# Altium footprint library WR-TBL_Rising Cage Clamp_5.00mm.PcbLib: 76 footprints (part 3 of 5)
Each footprint in its own frame and in the unit in brackets; x right, y up, seen from the top. Pads: shape width x height; smd on the part's side, far side on the other; paste and mask are expansions set on the pad; w line width, h text height; cw(c..) or ccw(c..) is an arc to the next point about the centre after c.
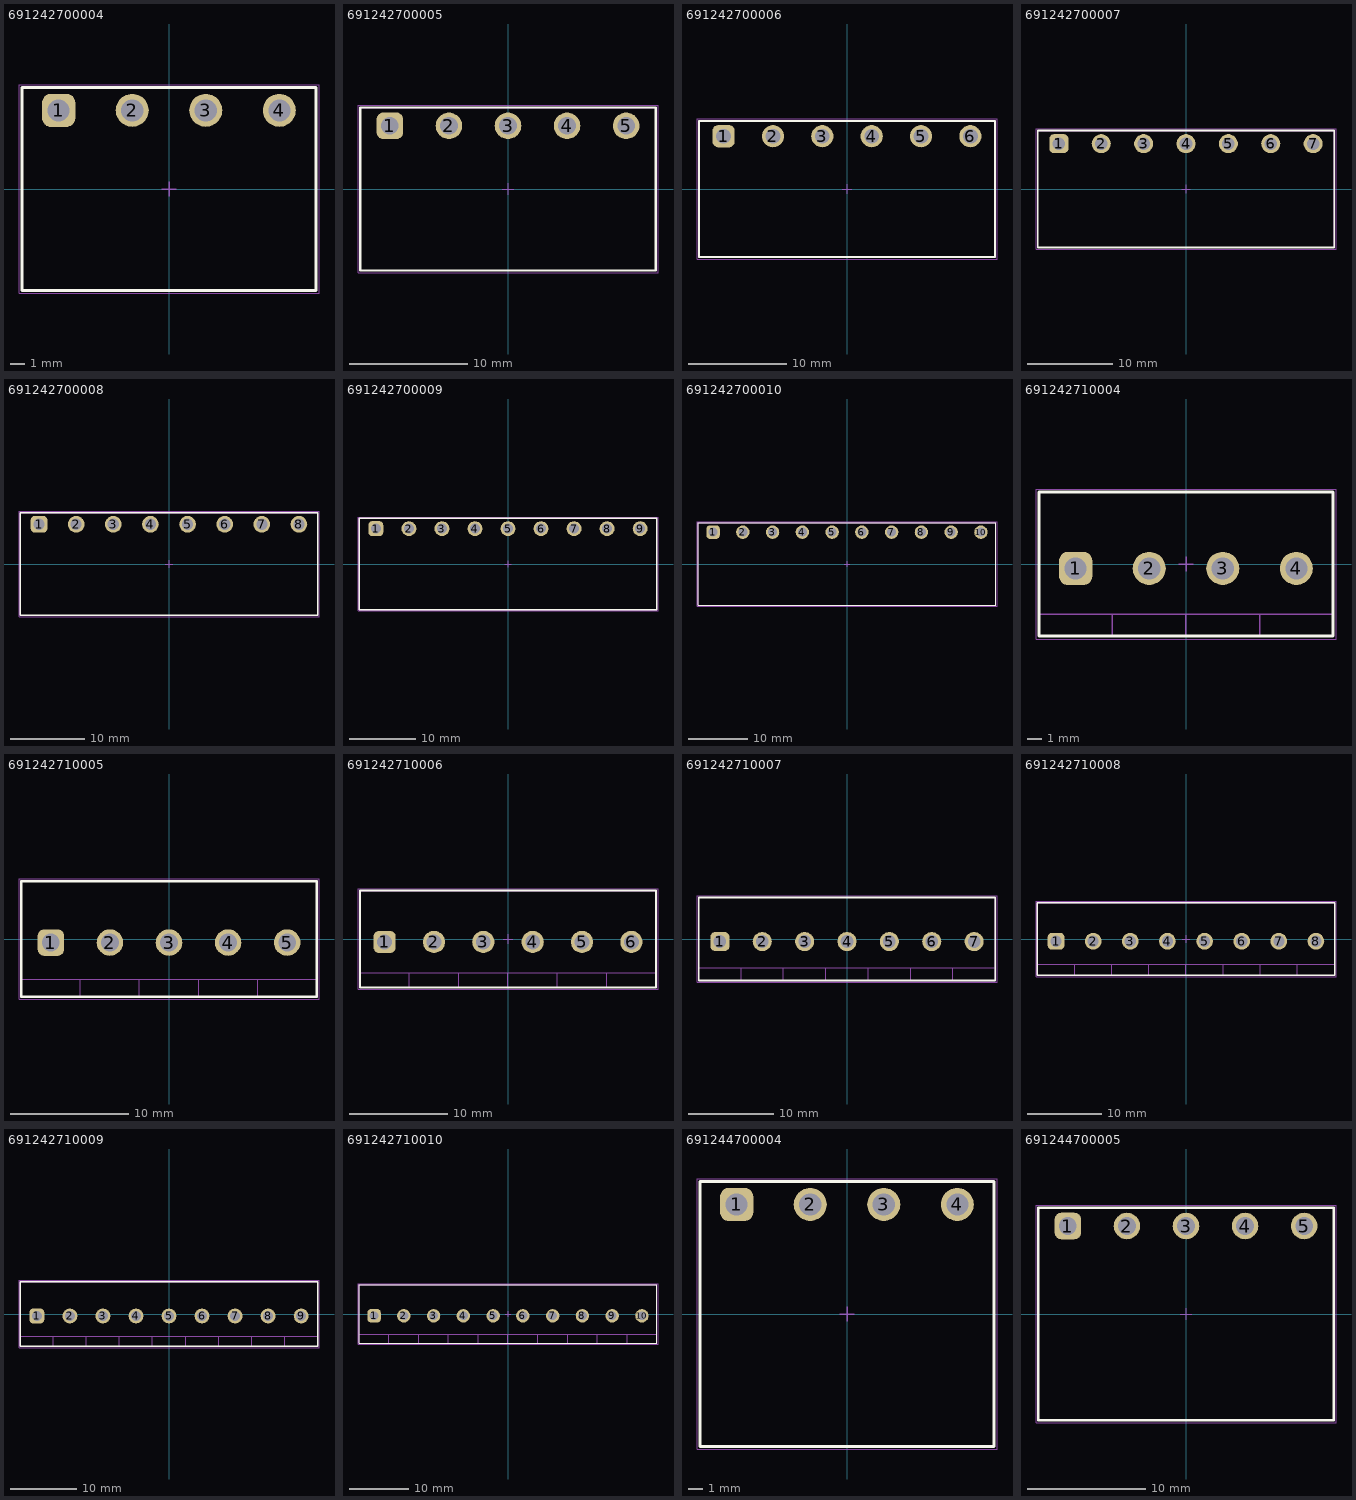
[diagram p2: the footprints below, top view; thin cyan lines are the x and y axes]

## 691242700004 [mm] "Serie 2427-5.00mm Vertical Cable Entry with Rising Cage Clamp, 4 pins"
height 9
pads (4):
  rrect50% 2.25x2.25 hole 1.5: 1(-7.5,5.35)
  round 2.25 hole 1.5: 2(-2.5,5.35) 3(2.5,5.35) 4(7.5,5.35)
Top Overlay:
  lines w0.2: -10,-6.9 10,-6.9 10,6.9 -10,6.9 -10,-6.9
Top Assembly:
  lines w0.1: -10,-6.9 -10,6.9 10,6.9 10,-6.9 -10,-6.9
Top Designator:
  text ".Designator" at -3.647,-0.357 h1
Top 3D Body:
  lines w0.1: -10,-6.9 10,-6.9 10,6.9 -10,6.9 -10,-6.9
Top Courtyard:
  lines w0.05: -10.2,-7.1 -10.2,7.1 10.2,7.1 10.2,-7.1 -10.2,-7.1
Top Component Center:
  lines w0.1: -0.5,0 0.5,0 ; 0,-0.5 0,0.5
3D body "691242700004.stp": height 9.85, standoff -3.45, extent -10,-6.9 10,6.9

## 691242700005 [mm] "Serie 2427-5.00mm Vertical Cable Entry with Rising Cage Clamp, 5 pins"
height 9
pads (5):
  rrect50% 2.25x2.25 hole 1.5: 1(-10,5.35)
  round 2.25 hole 1.5: 2(-5,5.35) 3(0,5.35) 4(5,5.35) 5(10,5.35)
Top Overlay:
  lines w0.2: -12.5,-6.9 12.5,-6.9 12.5,6.9 -12.5,6.9 -12.5,-6.9
Top Assembly:
  lines w0.1: -12.5,-6.9 -12.5,6.9 12.5,6.9 12.5,-6.9 -12.5,-6.9
Top Designator:
  text ".Designator" at -3.647,-0.357 h1
Top 3D Body:
  lines w0.1: -12.5,-6.9 12.5,-6.9 12.5,6.9 -12.5,6.9 -12.5,-6.9
Top Courtyard:
  lines w0.05: -12.7,-7.1 -12.7,7.1 12.7,7.1 12.7,-7.1 -12.7,-7.1
Top Component Center:
  lines w0.1: -0.5,0 0.5,0 ; 0,-0.5 0,0.5
3D body "691242700005.stp": height 9.85, standoff -3.45, extent -12.5,-6.9 12.5,6.9

## 691242700006 [mm] "Serie 2427-5.00mm Vertical Cable Entry with Rising Cage Clamp, 6 pins"
height 9
pads (6):
  rrect50% 2.25x2.25 hole 1.5: 1(-12.5,5.35)
  round 2.25 hole 1.5: 2(-7.5,5.35) 3(-2.5,5.35) 4(2.5,5.35) 5(7.5,5.35) 6(12.5,5.35)
Top Overlay:
  lines w0.2: -15,-6.9 -15,6.9 15,6.9 15,-6.9 -15,-6.9
Top Assembly:
  lines w0.1: -15,-6.9 15,-6.9 15,6.9 -15,6.9 -15,-6.9
Top Designator:
  text ".Designator" at -3.647,-0.357 h1
Top 3D Body:
  lines w0.1: -15,-6.9 -15,6.9 15,6.9 15,-6.9 -15,-6.9
Top Courtyard:
  lines w0.05: -15.2,-7.1 15.2,-7.1 15.2,7.1 -15.2,7.1 -15.2,-7.1
Top Component Center:
  lines w0.1: -0.5,0 0.5,0 ; 0,-0.5 0,0.5
3D body "691242700006.stp": height 9.85, standoff -3.45, extent -15,-6.9 15,6.9

## 691242700007 [mm] "Serie 2427-5.00mm Vertical Cable Entry with Rising Cage Clamp, 7 pins"
height 9
pads (7):
  rrect50% 2.25x2.25 hole 1.5: 1(-15,5.35)
  round 2.25 hole 1.5: 2(-10,5.35) 3(-5,5.35) 4(0,5.35) 5(5,5.35) 6(10,5.35) 7(15,5.35)
Top Overlay:
  lines w0.2: -17.5,-6.9 -17.5,6.9 17.5,6.9 17.5,-6.9 -17.5,-6.9
Top Assembly:
  lines w0.1: -17.5,-6.9 17.5,-6.9 17.5,6.9 -17.5,6.9 -17.5,-6.9
Top Designator:
  text ".Designator" at -3.647,-0.357 h1
Top 3D Body:
  lines w0.1: -17.5,-6.9 -17.5,6.9 17.5,6.9 17.5,-6.9 -17.5,-6.9
Top Courtyard:
  lines w0.05: -17.7,-7.1 17.7,-7.1 17.7,7.1 -17.7,7.1 -17.7,-7.1
Top Component Center:
  lines w0.1: -0.5,0 0.5,0 ; 0,-0.5 0,0.5
3D body "691242700007.stp": height 9.85, standoff -3.45, extent -17.5,-6.9 17.5,6.9

## 691242700008 [mm] "Serie 2427-5.00mm Vertical Cable Entry with Rising Cage Clamp, 8 pins"
height 9
pads (8):
  rrect50% 2.25x2.25 hole 1.5: 1(-17.5,5.35)
  round 2.25 hole 1.5: 2(-12.5,5.35) 3(-7.5,5.35) 4(-2.5,5.35) 5(2.5,5.35) 6(7.5,5.35) 7(12.5,5.35) 8(17.5,5.35)
Top Overlay:
  lines w0.2: -20,-6.9 20,-6.9 20,6.9 -20,6.9 -20,-6.9
Top Assembly:
  lines w0.1: -20,-6.9 -20,6.9 20,6.9 20,-6.9 -20,-6.9
Top Designator:
  text ".Designator" at -3.647,-0.357 h1
Top 3D Body:
  lines w0.1: -20,-6.9 20,-6.9 20,6.9 -20,6.9 -20,-6.9
Top Courtyard:
  lines w0.05: -20.2,-7.1 -20.2,7.1 20.2,7.1 20.2,-7.1 -20.2,-7.1
Top Component Center:
  lines w0.1: -0.5,0 0.5,0 ; 0,-0.5 0,0.5
3D body "691242700008.stp": height 9.85, standoff -3.45, extent -20,-6.9 20,6.9

## 691242700009 [mm] "Serie 2427-5.00mm Vertical Cable Entry with Rising Cage Clamp, 9 pins"
height 9
pads (9):
  rrect50% 2.25x2.25 hole 1.5: 1(-20,5.35)
  round 2.25 hole 1.5: 2(-15,5.35) 3(-10,5.35) 4(-5,5.35) 5(0,5.35) 6(5,5.35) 7(10,5.35) 8(15,5.35) 9(20,5.35)
Top Overlay:
  lines w0.2: -22.5,-6.9 22.5,-6.9 22.5,6.9 -22.5,6.9 -22.5,-6.9
Top Assembly:
  lines w0.1: -22.5,-6.9 -22.5,6.9 22.5,6.9 22.5,-6.9 -22.5,-6.9
Top Designator:
  text ".Designator" at -3.647,-0.357 h1
Top 3D Body:
  lines w0.1: -22.5,-6.9 22.5,-6.9 22.5,6.9 -22.5,6.9 -22.5,-6.9
Top Courtyard:
  lines w0.05: -22.7,-7.1 -22.7,7.1 22.7,7.1 22.7,-7.1 -22.7,-7.1
Top Component Center:
  lines w0.1: -0.5,0 0.5,0 ; 0,-0.5 0,0.5
3D body "691242700009.stp": height 9.85, standoff -3.45, extent -22.5,-6.9 22.5,6.9

## 691242700010 [mm] "Serie 2427-5.00mm Vertical Cable Entry with Rising Cage Clamp, 10 pins"
height 9
pads (10):
  rrect50% 2.25x2.25 hole 1.5: 1(-22.5,5.35)
  round 2.25 hole 1.5: 2(-17.5,5.35) 3(-12.5,5.35) 4(-7.5,5.35) 5(-2.5,5.35) 6(2.5,5.35) 7(7.5,5.35) 8(12.5,5.35) 9(17.5,5.35) 10(22.5,5.35)
Top Overlay:
  lines w0.2: -25,-6.9 -25,6.9 25,6.9 25,-6.9 -25,-6.9
Top Assembly:
  lines w0.1: -25,-6.9 25,-6.9 25,6.9 -25,6.9 -25,-6.9
Top Designator:
  text ".Designator" at -3.647,-0.357 h1
Top 3D Body:
  lines w0.1: -25,-6.9 -25,6.9 25,6.9 25,-6.9 -25,-6.9
Top Courtyard:
  lines w0.05: -25.2,-7.1 25.2,-7.1 25.2,7.1 -25.2,7.1 -25.2,-7.1
Top Component Center:
  lines w0.1: -0.5,0 0.5,0 ; 0,-0.5 0,0.5
3D body "691242700010.stp": height 9.85, standoff -3.45, extent -25,-6.9 25,6.9

## 691242710004 [mm] "Serie 2427 - 5.00 mm_4 pins"
height 13.8
pads (4):
  rrect50% 2.25x2.25 hole 1.5: 1(-7.5,-0.3)
  round 2.25 hole 1.5: 2(-2.5,-0.3) 3(2.5,-0.3) 4(7.5,-0.3)
Top Overlay:
  lines w0.2: -10,-4.9 10,-4.9 10,4.9 -10,4.9 -10,-4.9
Top Assembly:
  lines w0.1: -10,-3.4 10,-3.4 ; -5,-4.9 -5,-3.4 ; 0,-4.9 0,-3.4 ; 5,-4.9 5,-3.4 ; -10,-4.9 -10,4.9 10,4.9 10,-4.9 -10,-4.9
Top Designator:
  text ".Designator" at -3.647,-0.357 h1
Top 3D Body:
  lines w0.1: -10,-3.4 10,-3.4 ; -5,-4.9 -5,-3.4 ; 0,-4.9 0,-3.4 ; 5,-4.9 5,-3.4 ; -10,-4.9 10,-4.9 10,4.9 -10,4.9 -10,-4.9
Top Courtyard:
  lines w0.05: -10.2,-5.1 10.2,-5.1 10.2,5.1 -10.2,5.1 -10.2,-5.1
Top Component Center:
  lines w0.1: -0.5,0 0.5,0 ; 0,-0.5 0,0.5
3D body "691242710004.stp": height 13.85, standoff -3.45, extent -10,-4.9 10,4.9

## 691242710005 [mm] "Serie 2427 - 5.00 mm_5 pins"
height 13.8
pads (5):
  rrect50% 2.25x2.25 hole 1.5: 1(-10,-0.3)
  round 2.25 hole 1.5: 2(-5,-0.3) 3(0,-0.3) 4(5,-0.3) 5(10,-0.3)
Top Overlay:
  lines w0.2: -12.5,-4.9 12.5,-4.9 12.5,4.9 -12.5,4.9 -12.5,-4.9
Top Assembly:
  lines w0.1: -12.5,-3.4 12.5,-3.4 ; -7.5,-4.9 -7.5,-3.4 ; -2.5,-4.9 -2.5,-3.4 ; 2.5,-4.9 2.5,-3.4 ; 7.5,-4.9 7.5,-3.4 ; -12.5,-4.9 -12.5,4.9 12.5,4.9 12.5,-4.9 -12.5,-4.9
Top Designator:
  text ".Designator" at -3.647,-0.357 h1
Top 3D Body:
  lines w0.1: -12.5,-3.4 12.5,-3.4 ; -7.5,-4.9 -7.5,-3.4 ; -2.5,-4.9 -2.5,-3.4 ; 2.5,-4.9 2.5,-3.4 ; 7.5,-4.9 7.5,-3.4 ; -12.5,-4.9 12.5,-4.9 12.5,4.9 -12.5,4.9 -12.5,-4.9
Top Courtyard:
  lines w0.05: -12.7,-5.1 12.7,-5.1 12.7,5.1 -12.7,5.1 -12.7,-5.1
Top Component Center:
  lines w0.1: -0.5,0 0.5,0 ; 0,-0.5 0,0.5
3D body "691242710005.stp": height 13.85, standoff -3.45, extent -12.5,-4.9 12.5,4.9

## 691242710006 [mm] "Serie 2427 - 5.00 mm_6 pins"
height 13.8
pads (6):
  rrect50% 2.25x2.25 hole 1.5: 1(-12.5,-0.3)
  round 2.25 hole 1.5: 2(-7.5,-0.3) 3(-2.5,-0.3) 4(2.5,-0.3) 5(7.5,-0.3) 6(12.5,-0.3)
Top Overlay:
  lines w0.2: -15,-4.9 -15,4.9 15,4.9 15,-4.9 -15,-4.9
Top Assembly:
  lines w0.1: -15,-3.4 15,-3.4 ; -10,-4.9 -10,-3.4 ; -5,-4.9 -5,-3.4 ; 0,-4.9 0,-3.4 ; 5,-4.9 5,-3.4 ; 10,-4.9 10,-3.4 ; -15,-4.9 15,-4.9 15,4.9 -15,4.9 -15,-4.9
Top Designator:
  text ".Designator" at -3.647,-0.357 h1
Top 3D Body:
  lines w0.1: -15,-3.4 15,-3.4 ; -10,-4.9 -10,-3.4 ; -5,-4.9 -5,-3.4 ; 0,-4.9 0,-3.4 ; 5,-4.9 5,-3.4 ; 10,-4.9 10,-3.4 ; -15,-4.9 -15,4.9 15,4.9 15,-4.9 -15,-4.9
Top Courtyard:
  lines w0.05: -15.2,-5.1 -15.2,5.1 15.2,5.1 15.2,-5.1 -15.2,-5.1
Top Component Center:
  lines w0.1: -0.5,0 0.5,0 ; 0,-0.5 0,0.5
3D body "691242710006.stp": height 13.85, standoff -3.45, extent -15,-4.9 15,4.9

## 691242710007 [mm] "Serie 2427 - 5.00 mm_7 pins"
height 13.8
pads (7):
  rrect50% 2.25x2.25 hole 1.5: 1(-15,-0.3)
  round 2.25 hole 1.5: 2(-10,-0.3) 3(-5,-0.3) 4(0,-0.3) 5(5,-0.3) 6(10,-0.3) 7(15,-0.3)
Top Overlay:
  lines w0.2: -17.5,-4.9 17.5,-4.9 17.5,4.9 -17.5,4.9 -17.5,-4.9
Top Assembly:
  lines w0.1: -17.5,-3.4 17.5,-3.4 ; -12.5,-4.9 -12.5,-3.4 ; -7.5,-4.9 -7.5,-3.4 ; -2.5,-4.9 -2.5,-3.4 ; 2.5,-4.9 2.5,-3.4 ; 7.5,-4.9 7.5,-3.4 ; 12.5,-4.9 12.5,-3.4 ; -17.5,-4.9 -17.5,4.9 17.5,4.9 17.5,-4.9 -17.5,-4.9
Top Designator:
  text ".Designator" at -3.647,-0.357 h1
Top 3D Body:
  lines w0.1: -17.5,-3.4 17.5,-3.4 ; -12.5,-4.9 -12.5,-3.4 ; -7.5,-4.9 -7.5,-3.4 ; -2.5,-4.9 -2.5,-3.4 ; 2.5,-4.9 2.5,-3.4 ; 7.5,-4.9 7.5,-3.4 ; 12.5,-4.9 12.5,-3.4 ; -17.5,-4.9 17.5,-4.9 17.5,4.9 -17.5,4.9 -17.5,-4.9
Top Courtyard:
  lines w0.05: -17.7,-5.1 17.7,-5.1 17.7,5.1 -17.7,5.1 -17.7,-5.1
Top Component Center:
  lines w0.1: -0.5,0 0.5,0 ; 0,-0.5 0,0.5
3D body "691242710007.stp": height 13.85, standoff -3.45, extent -17.5,-4.9 17.5,4.9

## 691242710008 [mm] "Serie 2427 - 5.00 mm_8 pins"
height 13.8
pads (8):
  rrect50% 2.25x2.25 hole 1.5: 1(-17.5,-0.3)
  round 2.25 hole 1.5: 2(-12.5,-0.3) 3(-7.5,-0.3) 4(-2.5,-0.3) 5(2.5,-0.3) 6(7.5,-0.3) 7(12.5,-0.3) 8(17.5,-0.3)
Top Overlay:
  lines w0.2: -20,-4.9 -20,4.9 20,4.9 20,-4.9 -20,-4.9
Top Assembly:
  lines w0.1: -20,-3.4 20,-3.4 ; -15,-4.9 -15,-3.4 ; -10,-4.9 -10,-3.4 ; -5,-4.9 -5,-3.4 ; 0,-4.9 0,-3.4 ; 5,-4.9 5,-3.4 ; 10,-4.9 10,-3.4 ; 15,-4.9 15,-3.4 ; -20,-4.9 20,-4.9 20,4.9 -20,4.9 -20,-4.9
Top Designator:
  text ".Designator" at -3.647,-0.357 h1
Top 3D Body:
  lines w0.1: -20,-3.4 20,-3.4 ; -15,-4.9 -15,-3.4 ; -10,-4.9 -10,-3.4 ; -5,-4.9 -5,-3.4 ; 0,-4.9 0,-3.4 ; 5,-4.9 5,-3.4 ; 10,-4.9 10,-3.4 ; 15,-4.9 15,-3.4 ; -20,-4.9 -20,4.9 20,4.9 20,-4.9 -20,-4.9
Top Courtyard:
  lines w0.05: -20.2,-5.1 -20.2,5.1 20.2,5.1 20.2,-5.1 -20.2,-5.1
Top Component Center:
  lines w0.1: -0.5,0 0.5,0 ; 0,-0.5 0,0.5
3D body "691242710008.stp": height 13.85, standoff -3.45, extent -20,-4.9 20,4.9

## 691242710009 [mm] "Serie 2427 - 5.00 mm_9 pins"
height 13.8
pads (9):
  rrect50% 2.25x2.25 hole 1.5: 1(-20,-0.3)
  round 2.25 hole 1.5: 2(-15,-0.3) 3(-10,-0.3) 4(-5,-0.3) 5(0,-0.3) 6(5,-0.3) 7(10,-0.3) 8(15,-0.3) 9(20,-0.3)
Top Overlay:
  lines w0.2: -22.5,-4.9 -22.5,4.9 22.5,4.9 22.5,-4.9 -22.5,-4.9
Top Assembly:
  lines w0.1: -22.5,-3.4 22.5,-3.4 ; -17.5,-4.9 -17.5,-3.4 ; -12.5,-4.9 -12.5,-3.4 ; -7.5,-4.9 -7.5,-3.4 ; -2.5,-4.9 -2.5,-3.4 ; 2.5,-4.9 2.5,-3.4 ; 7.5,-4.9 7.5,-3.4 ; 12.5,-4.9 12.5,-3.4 ; 17.5,-4.9 17.5,-3.4 ; -22.5,-4.9 22.5,-4.9 22.5,4.9 -22.5,4.9 -22.5,-4.9
Top Designator:
  text ".Designator" at -3.647,-0.357 h1
Top 3D Body:
  lines w0.1: -22.5,-3.4 22.5,-3.4 ; -17.5,-4.9 -17.5,-3.4 ; -12.5,-4.9 -12.5,-3.4 ; -7.5,-4.9 -7.5,-3.4 ; -2.5,-4.9 -2.5,-3.4 ; 2.5,-4.9 2.5,-3.4 ; 7.5,-4.9 7.5,-3.4 ; 12.5,-4.9 12.5,-3.4 ; 17.5,-4.9 17.5,-3.4 ; -22.5,-4.9 -22.5,4.9 22.5,4.9 22.5,-4.9 -22.5,-4.9
Top Courtyard:
  lines w0.05: -22.7,-5.1 -22.7,5.1 22.7,5.1 22.7,-5.1 -22.7,-5.1
Top Component Center:
  lines w0.1: -0.5,0 0.5,0 ; 0,-0.5 0,0.5
3D body "691242710009.stp": height 13.85, standoff -3.45, extent -22.5,-4.9 22.5,4.9

## 691242710010 [mm] "Serie 2427 - 5.00 mm_10 pins"
height 13.8
pads (10):
  rrect50% 2.25x2.25 hole 1.5: 1(-22.5,-0.3)
  round 2.25 hole 1.5: 2(-17.5,-0.3) 3(-12.5,-0.3) 4(-7.5,-0.3) 5(-2.5,-0.3) 6(2.5,-0.3) 7(7.5,-0.3) 8(12.5,-0.3) 9(17.5,-0.3) 10(22.5,-0.3)
Top Overlay:
  lines w0.2: -25,-4.9 25,-4.9 25,4.9 -25,4.9 -25,-4.9
Top Assembly:
  lines w0.1: -25,-3.4 25,-3.4 ; -20,-4.9 -20,-3.4 ; -15,-4.9 -15,-3.4 ; -10,-4.9 -10,-3.4 ; -5,-4.9 -5,-3.4 ; 0,-4.9 0,-3.4 ; 5,-4.9 5,-3.4 ; 10,-4.9 10,-3.4 ; 15,-4.9 15,-3.4 ; 20,-4.9 20,-3.4 ; -25,-4.9 -25,4.9 25,4.9 25,-4.9 -25,-4.9
Top Designator:
  text ".Designator" at -3.647,-0.357 h1
Top 3D Body:
  lines w0.1: -25,-3.4 25,-3.4 ; -20,-4.9 -20,-3.4 ; -15,-4.9 -15,-3.4 ; -10,-4.9 -10,-3.4 ; -5,-4.9 -5,-3.4 ; 0,-4.9 0,-3.4 ; 5,-4.9 5,-3.4 ; 10,-4.9 10,-3.4 ; 15,-4.9 15,-3.4 ; 20,-4.9 20,-3.4 ; -25,-4.9 25,-4.9 25,4.9 -25,4.9 -25,-4.9
Top Courtyard:
  lines w0.05: -25.2,-5.1 25.2,-5.1 25.2,5.1 -25.2,5.1 -25.2,-5.1
Top Component Center:
  lines w0.1: -0.5,0 0.5,0 ; 0,-0.5 0,0.5
3D body "691242710010.stp": height 13.85, standoff -3.45, extent -25,-4.9 25,4.9

## 691244700004 [mm] "Serie 2447 - 5.00 mm _ 4 pins"
height 11.2
pads (4):
  rrect50% 2.25x2.25 hole 1.5: 1(-7.5,7.45)
  round 2.25 hole 1.5: 2(-2.5,7.45) 3(2.5,7.45) 4(7.5,7.45)
Top Overlay:
  lines w0.2: -10,-9 10,-9 10,9 -10,9 -10,-9
Top Assembly:
  lines w0.1: -10,-9 -10,9 10,9 10,-9 -10,-9
Top Designator:
  text ".Designator" at -3.647,-0.357 h1
Top 3D Body:
  lines w0.1: -10,-9 10,-9 10,9 -10,9 -10,-9
Top Courtyard:
  lines w0.05: -10.2,-9.2 10.2,-9.2 10.2,9.2 -10.2,9.2 -10.2,-9.2
Top Component Center:
  lines w0.1: -0.5,0 0.5,0 ; 0,-0.5 0,0.5
3D body "691244700004.stp": height 11.3, standoff -3.9, extent -10,-9 10,9

## 691244700005 [mm] "Serie 2447 - 5.00 mm _ 5 pins"
height 11.2
pads (5):
  rrect50% 2.25x2.25 hole 1.5: 1(-10,7.45)
  round 2.25 hole 1.5: 2(-5,7.45) 3(0,7.45) 4(5,7.45) 5(10,7.45)
Top Overlay:
  lines w0.2: -12.5,-9 -12.5,9 12.5,9 12.5,-9 -12.5,-9
Top Assembly:
  lines w0.1: -12.5,-9 12.5,-9 12.5,9 -12.5,9 -12.5,-9
Top Designator:
  text ".Designator" at -3.647,-0.357 h1
Top 3D Body:
  lines w0.1: -12.5,-9 -12.5,9 12.5,9 12.5,-9 -12.5,-9
Top Courtyard:
  lines w0.05: -12.7,-9.2 -12.7,9.2 12.7,9.2 12.7,-9.2 -12.7,-9.2
Top Component Center:
  lines w0.1: -0.5,0 0.5,0 ; 0,-0.5 0,0.5
3D body "691244700005.stp": height 11.3, standoff -3.9, extent -12.5,-9 12.5,9